# Altium footprint library MOLEX_1050170001.PcbLib: 1 footprints
Each footprint in its own frame and in the unit in brackets; x right, y up, seen from the top. Pads: shape width x height; smd on the part's side, far side on the other; paste and mask are expansions set on the pad; w line width, h text height; cw(c..) or ccw(c..) is an arc to the next point about the centre after c.
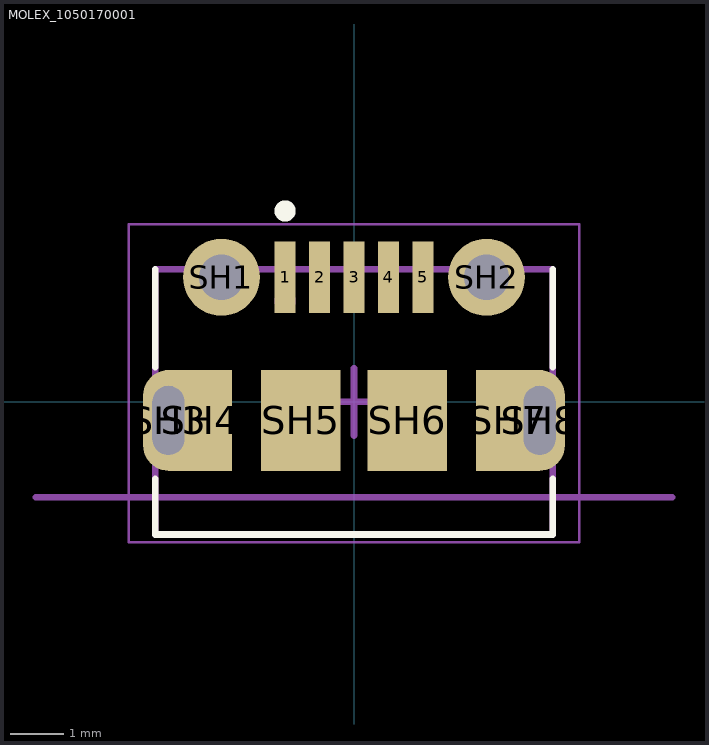
[diagram p0: the footprint, top view; thin cyan lines are the x and y axes]

## MOLEX_1050170001 [mm]
height 2.5
pads (13):
  rect 0.4x1.35 smd: 1(-1.3,2.35) 2(-0.65,2.35) 3(0,2.35) 4(0.65,2.35) 5(1.3,2.35)
  round 1.45 hole 0.85: SH1(-2.5,2.35) SH2(2.5,2.35)
  oval 0.95x1.9 hole 0.6 slot 1.3 at 90 deg: SH3(-3.5,-0.35) SH8(3.5,-0.35)
  rect 1.2x1.9 smd: SH4(-2.9,-0.35) SH7(2.9,-0.35)
  rect 1.5x1.9 smd: SH5(-1,-0.35) SH6(1,-0.35)
Top Overlay:
  circle w0.2: c-1.3,3.6 r0.1
  lines w0.127: -3.75,-1.45 -3.75,-2.5 3.75,-2.5 3.75,-1.45 ; -3.75,0.65 -3.75,2.5 ; 3.75,0.65 3.75,2.5
Mechanical 7:
  lines w0.127: -6,-1.8 -3.75,-1.8 3.75,-1.8 6,-1.8
  text "PCB EDGE" at 4.808,-1.803 h0.4
Mechanical 13:
  circle w0.2: c-1.3,1.9 r0.1
  lines w0.127: -3.75,-2.5 3.75,-2.5 3.75,-1.8 3.75,2.5 -3.75,2.5 -3.75,-1.8 -3.75,-2.45
Mechanical 15:
  lines w0.05: -4.25,-2.65 -4.25,3.35 4.25,3.35 4.25,-2.65 -4.25,-2.65
  lines w0.127: -0.635,0 0,0 ; 0,-0.635 0,0 ; 0,0.635 0,0 ; 0.635,0 0,0
3D body "105017-0001.stp": height 2.48, standoff -0.82, extent -4.1,-2.75 4.1,2.65